# Altium schematic symbol library lib_ic_MAG.SchLib: 3 symbols
Pins are listed as number, name and electrical type; pins without a type are passive.

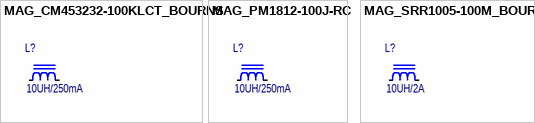
[diagram p0: symbols MAG_CM453232-100KLCT_BOURNS to MAG_SRR1005-100M_BOURNS]

## MAG_CM453232-100KLCT_BOURNS
designator L?  value 10UH/250mA  (hidden comment: *)
FIXED IND 10UH 2A 65 MOHM SMD; Manufacturer: Bourns Inc; Manufacturer Part Number: CM453232-100KL; BOM Populate: *; Current Rating: *; Supplier: *; Supplier Part No: *; Digikey Part Number: CM453232-100KLCT-ND; Voltage Rating: *; Tolerance: *; Mouser Part Number: 652-CM453232-100KL
footprint INDC4532X170N (Chip Inductor, Body 4.5x3.2mm, IPC Medium Density)
pins: 1, 2

## MAG_PM1812-100J-RC
designator L?  value 10UH/250mA  (hidden comment: *)
FIXED IND 10UH 250mA 1.6 OHM SMD; Manufacturer: Bourns Inc; Manufacturer Part Number: CM453232-100KL; BOM Populate: *; Current Rating: *; Supplier: *; Supplier Part No: *; Digikey Part Number: CM453232-100KLCT-ND; Voltage Rating: *; Tolerance: *; Mouser Part Number: 652-CM453232-100KL
footprint INDC4532X170N (Chip Inductor, Body 4.5x3.2mm, IPC Medium Density)
pins: 1, 2

## MAG_SRR1005-100M_BOURNS
designator L?  value 10UH/2A  (hidden comment: *)
FIXED IND 10UH 2A 65 MOHM SMD; Manufacturer: Bourns Inc; Manufacturer Part Number: SRR1005-100M; BOM Populate: *; Current Rating: *; Supplier: *; Supplier Part No: *; Digikey Part Number: SRR1005-100MCT-ND; Voltage Rating: *; Tolerance: *; Mouser Part Number: 652-SRR1005-100M
footprint MAG_INDUCTOR2A (Precision Wire Wound Inductor, 2-Leads, Body 12,7x10,0mm, IPC Medium Density)
pins: 1, 2